# Altium footprint library Sensor_Temparature.PcbLib: 4 footprints
Each footprint in its own frame and in the unit in brackets; x right, y up, seen from the top. Pads: shape width x height; smd on the part's side, far side on the other; paste and mask are expansions set on the pad; w line width, h text height; cw(c..) or ccw(c..) is an arc to the next point about the centre after c.
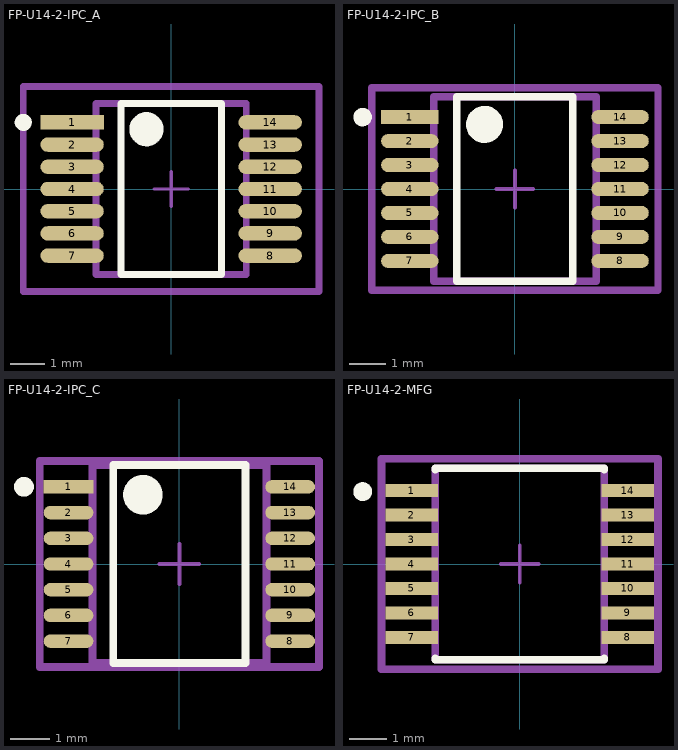
[diagram p0: the footprints below, top view; thin cyan lines are the x and y axes]

## FP-U14-2-IPC_A [mm]
pads (14):
  rect 1.857x0.421 smd paste+0 mask+0: 1(-2.901,1.95)
  rrect100% 1.857x0.421 smd paste+0 mask+0: 2(-2.901,1.3) 3(-2.901,0.65) 4(-2.901,0) 5(-2.901,-0.65) 6(-2.901,-1.3) 7(-2.901,-1.95) 8(2.901,-1.95) 9(2.901,-1.3) 10(2.901,-0.65) 11(2.901,0) 12(2.901,0.65) 13(2.901,1.3) 14(2.901,1.95)
Top Overlay:
  circle w0.25: c-4.329,1.95 r0.125
  circle w0.5: c-0.722,1.75 r0.25
  lines w0.2: -1.472,-2.5 -1.472,2.5 1.472,2.5 1.472,-2.5 -1.472,-2.5
Mechanical 5:
  lines w0.2: -4.329,-3 -4.329,3 4.329,3 4.329,-3 -4.329,-3
  text ".Designator" at 0,0.188 h1
Mechanical 13:
  lines w0.2: -2.2,-2.5 -2.2,2.5 2.2,2.5 2.2,-2.5 -2.2,-2.5
Mechanical 15:
  lines w0.2: -4.329,-3 -4.329,3 4.329,3 4.329,-3 -4.329,-3
Mechanical 16:
  lines w0.1: -0.5,0 0.5,0 ; 0,-0.5 0,0.5
3D body "TSSOP14-2.step": height 1.1, standoff 0, extent -3.2,-2.5 3.2,2.5

## FP-U14-2-IPC_B [mm]
pads (14):
  rect 1.557x0.381 smd paste+0 mask+0: 1(-2.851,1.95)
  rrect100% 1.557x0.381 smd paste+0 mask+0: 2(-2.851,1.3) 3(-2.851,0.65) 4(-2.851,0) 5(-2.851,-0.65) 6(-2.851,-1.3) 7(-2.851,-1.95) 8(2.851,-1.95) 9(2.851,-1.3) 10(2.851,-0.65) 11(2.851,0) 12(2.851,0.65) 13(2.851,1.3) 14(2.851,1.95)
Top Overlay:
  circle w0.5: c-0.822,1.75 r0.25
  circle w0.25: c-4.129,1.95 r0.125
  lines w0.2: -1.572,-2.5 1.572,-2.5 1.572,2.5 -1.572,2.5 -1.572,-2.5
Mechanical 5:
  lines w0.2: -3.879,-2.75 3.879,-2.75 3.879,2.75 -3.879,2.75 -3.879,-2.75
  text ".Designator" at 0,0.188 h1
Mechanical 13:
  lines w0.2: -2.2,-2.5 2.2,-2.5 2.2,2.5 -2.2,2.5 -2.2,-2.5
Mechanical 15:
  lines w0.2: -3.879,-2.75 3.879,-2.75 3.879,2.75 -3.879,2.75 -3.879,-2.75
Mechanical 16:
  lines w0.1: -0.5,0 0.5,0 ; 0,-0.5 0,0.5
3D body "TSSOP14-2.step": height 1.1, standoff 0, extent -3.2,-2.5 3.2,2.5

## FP-U14-2-IPC_C [mm]
pads (14):
  rect 1.257x0.341 smd paste+0 mask+0: 1(-2.801,1.95)
  rrect100% 1.257x0.341 smd paste+0 mask+0: 2(-2.801,1.3) 3(-2.801,0.65) 4(-2.801,0) 5(-2.801,-0.65) 6(-2.801,-1.3) 7(-2.801,-1.95) 8(2.801,-1.95) 9(2.801,-1.3) 10(2.801,-0.65) 11(2.801,0) 12(2.801,0.65) 13(2.801,1.3) 14(2.801,1.95)
Top Overlay:
  circle w0.25: c-3.929,1.95 r0.125
  circle w0.5: c-0.922,1.75 r0.25
  lines w0.2: -1.672,-2.5 -1.672,2.5 1.672,2.5 1.672,-2.5 -1.672,-2.5
Mechanical 5:
  lines w0.2: -3.529,-2.6 -3.529,2.6 3.529,2.6 3.529,-2.6 -3.529,-2.6
  text ".Designator" at 0,0.188 h1
Mechanical 13:
  lines w0.2: -2.2,-2.5 -2.2,2.5 2.2,2.5 2.2,-2.5 -2.2,-2.5
Mechanical 15:
  lines w0.2: -3.529,-2.6 -3.529,2.6 3.529,2.6 3.529,-2.6 -3.529,-2.6
Mechanical 16:
  lines w0.1: -0.5,0 0.5,0 ; 0,-0.5 0,0.5
3D body "TSSOP14-2.step": height 1.1, standoff 0, extent -3.2,-2.5 3.2,2.5

## FP-U14-2-MFG [mm]
pads (14):
  rect 1.4x0.35 smd paste+0 mask+0: 1(-2.875,1.95) 2(-2.875,1.3) 3(-2.875,0.65) 4(-2.875,0) 5(-2.875,-0.65) 6(-2.875,-1.3) 7(-2.875,-1.95) 8(2.875,-1.95) 9(2.875,-1.3) 10(2.875,-0.65) 11(2.875,0) 12(2.875,0.65) 13(2.875,1.3) 14(2.875,1.95)
Top Overlay:
  circle w0.25: c-4.175,1.925 r0.125
  lines w0.2: -2.25,-2.5 -2.25,-2.55 2.25,-2.55 2.25,-2.5 ; -2.25,2.5 -2.25,2.55 2.25,2.55 2.25,2.5
Mechanical 5:
  lines w0.2: -3.675,-2.8 -3.675,2.8 3.675,2.8 3.675,-2.8 -3.675,-2.8
  text ".Designator" at 0,0.188 h1
Mechanical 13:
  lines w0.2: -2.25,-2.55 -2.25,2.55 2.25,2.55 2.25,-2.55 -2.25,-2.55
Mechanical 15:
  lines w0.2: -3.675,-2.8 -3.675,2.8 3.675,2.8 3.675,-2.8 -3.675,-2.8
Mechanical 16:
  lines w0.1: -0.5,0 0.5,0 ; 0,-0.5 0,0.5
3D body "TSSOP14-2.step": height 1.1, standoff 0, extent -3.2,-2.5 3.2,2.5